# Altium integrated library LEDs-SMRW_rev15a.intlib: 16 symbols
Pins are listed as number, name and electrical type; pins without a type are passive.

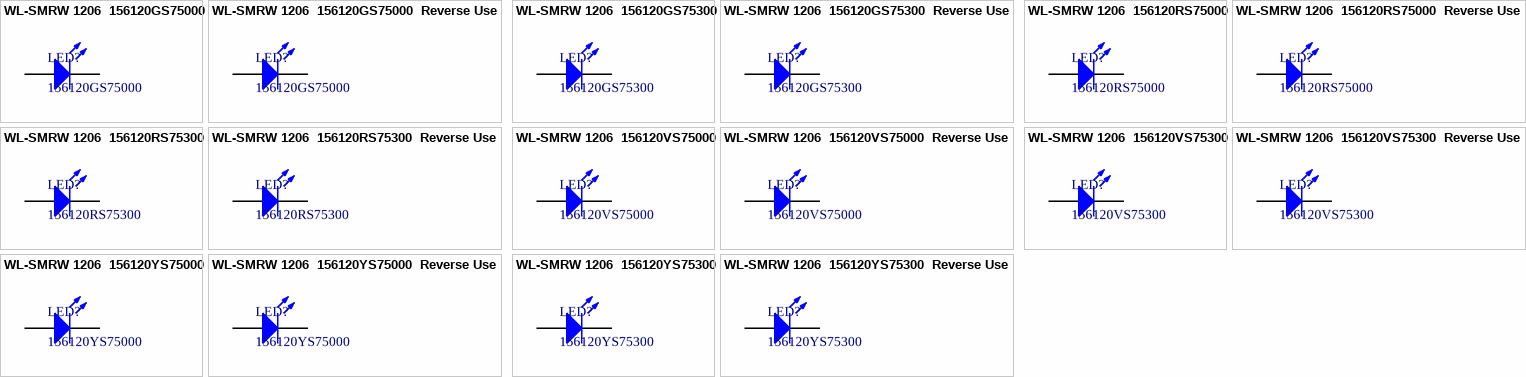
[diagram p0: symbols WL-SMRW 1206  156120GS75000 to WL-SMRW 1206  156120YS75300  Reverse Use]

## WL-SMRW 1206  156120GS75000
designator LED?, comment 156120GS75000
SMD mono-color reverse mount waterclear Chip LED, WL-SMRW, Green; Manufacturer: Würth Elektronik eiSos GmbH; Lens Type: Rectangular; PartNo: 156120GS75000; ComponentLink1Description: Manufacturer; ComponentLink1URL: http://www.we-online.de; Created by: Christin Otto; Created Date: June 2013; ComponentLink2Description: Datasheet; ComponentLink2URL: http://katalog.we-online.com/led/datasheet/156120GS75000.pdf; Color: Green
footprint 1206  Rectangular (Chip LED, 2-Leads, Body 3.2x1.6mm, IPC Medium Density)
pins: 1 K, 2 A

## WL-SMRW 1206  156120GS75000  Reverse Use
designator LED?, comment 156120GS75000
SMD mono-color reverse mount waterclear Chip LED, WL-SMRW, Green; Manufacturer: Würth Elektronik eiSos GmbH; Lens Type: Rectangular; PartNo: 156120GS75000; ComponentLink1Description: Manufacturer; ComponentLink1URL: http://www.we-online.de; Created by: Christin Otto; Created Date: June 2013; ComponentLink2Description: Datasheet; ComponentLink2URL: http://katalog.we-online.com/led/datasheet/156120GS75000.pdf; Color: Green
footprint 1206  RECTANGULAR-REVERSE USE (Chip LED, 2-Leads, Body 3.2x1.6mm, IPC Medium Density)
pins: 1 K, 2 A

## WL-SMRW 1206  156120GS75300
designator LED?, comment 156120GS75300
SMD mono-color reverse mount waterclear Chip LED, WL-SMRW, Green; Manufacturer: Würth Elektronik eiSos GmbH; Lens Type: Cylindrical; PartNo: 156120GS75300; ComponentLink1Description: Manufacturer; ComponentLink1URL: http://www.we-online.de; Created by: Christin Otto; Created Date: June 2013; ComponentLink2Description: Datasheet; ComponentLink2URL: http://katalog.we-online.com/led/datasheet/156120GS75300.pdf; Color: Green
footprint 1206  Cylindrical (Chip LED, 2-Leads, Body 3.2x1.6mm, IPC Medium Density)
pins: 1 K, 2 A

## WL-SMRW 1206  156120GS75300  Reverse Use
designator LED?, comment 156120GS75300
SMD mono-color reverse mount waterclear Chip LED, WL-SMRW, Green; Manufacturer: Würth Elektronik eiSos GmbH; Lens Type: Cylindrical; PartNo: 156120GS75300; ComponentLink1Description: Manufacturer; ComponentLink1URL: http://www.we-online.de; Created by: Christin Otto; Created Date: June 2013; ComponentLink2Description: Datasheet; ComponentLink2URL: http://katalog.we-online.com/led/datasheet/156120GS75300.pdf; Color: Green
footprint 1206  CYLINDRICAL- Reverse Use (Chip LED, 2-Leads, Body 3.2x1.6mm, IPC Medium Density)
pins: 1 K, 2 A

## WL-SMRW 1206  156120RS75000
designator LED?, comment 156120RS75000
SMD mono-color reverse mount waterclear Chip LED, WL-SMRW, Red; Manufacturer: Würth Elektronik eiSos GmbH; Lens Type: Rectangular; PartNo: 156120RS75000; ComponentLink1Description: Manufacturer; ComponentLink1URL: http://www.we-online.de; Created by: Christin Otto; Created Date: June 2013; ComponentLink2Description: Datasheet; ComponentLink2URL: http://katalog.we-online.com/led/datasheet/156120RS75000.pdf; Color: Red
footprint 1206  Rectangular (Chip Capacitor, 2-Leads, Body 3.2x1.6mm, IPC Medium Density)
pins: 1 K, 2 A

## WL-SMRW 1206  156120RS75000  Reverse Use
designator LED?, comment 156120RS75000
SMD mono-color reverse mount waterclear Chip LED, WL-SMRW, Red; Manufacturer: Würth Elektronik eiSos GmbH; Lens Type: Rectangular; PartNo: 156120RS75000; ComponentLink1Description: Manufacturer; ComponentLink1URL: http://www.we-online.de; Created by: Christin Otto; Created Date: June 2013; ComponentLink2Description: Datasheet; ComponentLink2URL: http://katalog.we-online.com/led/datasheet/156120RS75000.pdf; Color: Red
footprint 1206  RECTANGULAR-REVERSE USE (Chip LED, 2-Leads, Body 3.2x1.6mm, IPC Medium Density)
pins: 1 K, 2 A

## WL-SMRW 1206  156120RS75300
designator LED?, comment 156120RS75300
SMD mono-color reverse mount waterclear Chip LED, WL-SMRW, Red; Manufacturer: Würth Elektronik eiSos GmbH; Lens Type: Cylindrical; PartNo: 156120RS75300; ComponentLink1Description: Manufacturer; ComponentLink1URL: http://www.we-online.de; Created by: Christin Otto; Created Date: June 2013; ComponentLink2Description: Datasheet; ComponentLink2URL: http://katalog.we-online.com/led/datasheet/156120RS75300.pdf; Color: Red
footprint 1206  Cylindrical (Chip LED, 2-Leads, Body 3.2x1.6mm, IPC Medium Density)
pins: 1 K, 2 A

## WL-SMRW 1206  156120RS75300  Reverse Use
designator LED?, comment 156120RS75300
SMD mono-color reverse mount waterclear Chip LED, WL-SMRW, Red; Manufacturer: Würth Elektronik eiSos GmbH; Lens Type: Cylindrical; PartNo: 156120RS75300; ComponentLink1Description: Manufacturer; ComponentLink1URL: http://www.we-online.de; Created by: Christin Otto; Created Date: June 2013; ComponentLink2Description: Datasheet; ComponentLink2URL: http://katalog.we-online.com/led/datasheet/156120RS75300.pdf; Color: Red
footprint 1206  CYLINDRICAL- Reverse Use (Chip LED, 2-Leads, Body 3.2x1.6mm, IPC Medium Density)
pins: 1 K, 2 A

## WL-SMRW 1206  156120VS75000
designator LED?, comment 156120VS75000
SMD mono-color reverse mount waterclear Chip LED, WL-SMRW, Bright Green; Manufacturer: Würth Elektronik eiSos GmbH; Lens Type: Rectangular; PartNo: 156120VS75000; ComponentLink1Description: Manufacturer; ComponentLink1URL: http://www.we-online.de; Created by: Christin Otto; Created Date: June 2013; ComponentLink2Description: Datasheet; ComponentLink2URL: http://katalog.we-online.com/led/datasheet/156120VS75000.pdf; Color: Bright Green
footprint 1206  Rectangular (Chip Capacitor, 2-Leads, Body 3.2x1.6mm, IPC Medium Density)
pins: 1 K, 2 A

## WL-SMRW 1206  156120VS75000  Reverse Use
designator LED?, comment 156120VS75000
SMD mono-color reverse mount waterclear Chip LED, WL-SMRW, Bright Green; Manufacturer: Würth Elektronik eiSos GmbH; Lens Type: Rectangular; PartNo: 156120VS75000; ComponentLink1Description: Manufacturer; ComponentLink1URL: http://www.we-online.de; Created by: Christin Otto; Created Date: June 2013; ComponentLink2Description: Datasheet; ComponentLink2URL: http://katalog.we-online.com/led/datasheet/156120VS75000.pdf; Color: Bright Green
footprint 1206  RECTANGULAR-REVERSE USE (Chip LED, 2-Leads, Body 3.2x1.6mm, IPC Medium Density)
pins: 1 K, 2 A

## WL-SMRW 1206  156120VS75300
designator LED?, comment 156120VS75300
SMD mono-color reverse mount waterclear Chip LED, WL-SMRW, Bright Green; Manufacturer: Würth Elektronik eiSos GmbH; Lens Type: Cylindrical; PartNo: 156120VS75300; ComponentLink1Description: Manufacturer; ComponentLink1URL: http://www.we-online.de; Created by: Christin Otto; Created Date: June 2013; ComponentLink2Description: Datasheet; ComponentLink2URL: http://katalog.we-online.com/led/datasheet/156120VS75300.pdf; Color: Bright Green
footprint 1206  Cylindrical (Chip LED, 2-Leads, Body 3.2x1.6mm, IPC Medium Density)
pins: 1 K, 2 A

## WL-SMRW 1206  156120VS75300  Reverse Use
designator LED?, comment 156120VS75300
SMD mono-color reverse mount waterclear Chip LED, WL-SMRW, Bright Green; Manufacturer: Würth Elektronik eiSos GmbH; Lens Type: Cylindrical; PartNo: 156120VS75300; ComponentLink1Description: Manufacturer; ComponentLink1URL: http://www.we-online.de; Created by: Christin Otto; Created Date: June 2013; ComponentLink2Description: Datasheet; ComponentLink2URL: http://katalog.we-online.com/led/datasheet/156120VS75300.pdf; Color: Bright Green
footprint 1206  CYLINDRICAL- Reverse Use (Chip LED, 2-Leads, Body 3.2x1.6mm, IPC Medium Density)
pins: 1 K, 2 A

## WL-SMRW 1206  156120YS75000
designator LED?, comment 156120YS75000
SMD mono-color reverse mount waterclear Chip LED, WL-SMRW, Yellow; Manufacturer: Würth Elektronik eiSos GmbH; Lens Type: Rectangular; PartNo: 156120YS75000; ComponentLink1Description: Manufacturer; ComponentLink1URL: http://www.we-online.de; Created by: Christin Otto; Created Date: June 2013; ComponentLink2Description: Datasheet; ComponentLink2URL: http://katalog.we-online.com/led/datasheet/156120YS75000.pdf; Color: Yellow
footprint 1206  Rectangular (Chip Capacitor, 2-Leads, Body 3.2x1.6mm, IPC Medium Density)
pins: 1 K, 2 A

## WL-SMRW 1206  156120YS75000  Reverse Use
designator LED?, comment 156120YS75000
SMD mono-color reverse mount waterclear Chip LED, WL-SMRW, Yellow; Manufacturer: Würth Elektronik eiSos GmbH; Lens Type: Rectangular; PartNo: 156120YS75000; ComponentLink1Description: Manufacturer; ComponentLink1URL: http://www.we-online.de; Created by: Christin Otto; Created Date: June 2013; ComponentLink2Description: Datasheet; ComponentLink2URL: http://katalog.we-online.com/led/datasheet/156120YS75000.pdf; Color: Yellow
footprint 1206  RECTANGULAR-REVERSE USE (Chip LED, 2-Leads, Body 3.2x1.6mm, IPC Medium Density)
pins: 1 K, 2 A

## WL-SMRW 1206  156120YS75300
designator LED?, comment 156120YS75300
SMD mono-color reverse mount waterclear Chip LED, WL-SMRW, Yellow; Manufacturer: Würth Elektronik eiSos GmbH; Lens Type: Cylindrical; PartNo: 156120YS75300; ComponentLink1Description: Manufacturer; ComponentLink1URL: http://www.we-online.de; Created by: Christin Otto; Created Date: June 2013; ComponentLink2Description: Datasheet; ComponentLink2URL: http://katalog.we-online.com/led/datasheet/156120YS75300.pdf; Color: Yellow
footprint 1206  Cylindrical (Chip LED, 2-Leads, Body 3.2x1.6mm, IPC Medium Density)
pins: 1 K, 2 A

## WL-SMRW 1206  156120YS75300  Reverse Use
designator LED?, comment 156120YS75300
SMD mono-color reverse mount waterclear Chip LED, WL-SMRW, Yellow; Manufacturer: Würth Elektronik eiSos GmbH; Lens Type: Cylindrical; PartNo: 156120YS75300; ComponentLink1Description: Manufacturer; ComponentLink1URL: http://www.we-online.de; Created by: Christin Otto; Created Date: June 2013; ComponentLink2Description: Datasheet; ComponentLink2URL: http://katalog.we-online.com/led/datasheet/156120YS75300.pdf; Color: Yellow
footprint 1206  CYLINDRICAL- Reverse Use (Chip LED, 2-Leads, Body 3.2x1.6mm, IPC Medium Density)
pins: 1 K, 2 A